# Altium integrated library Analog Devices Operational Amplifiers.IntLib: 2102 symbols (part 14 of 70)
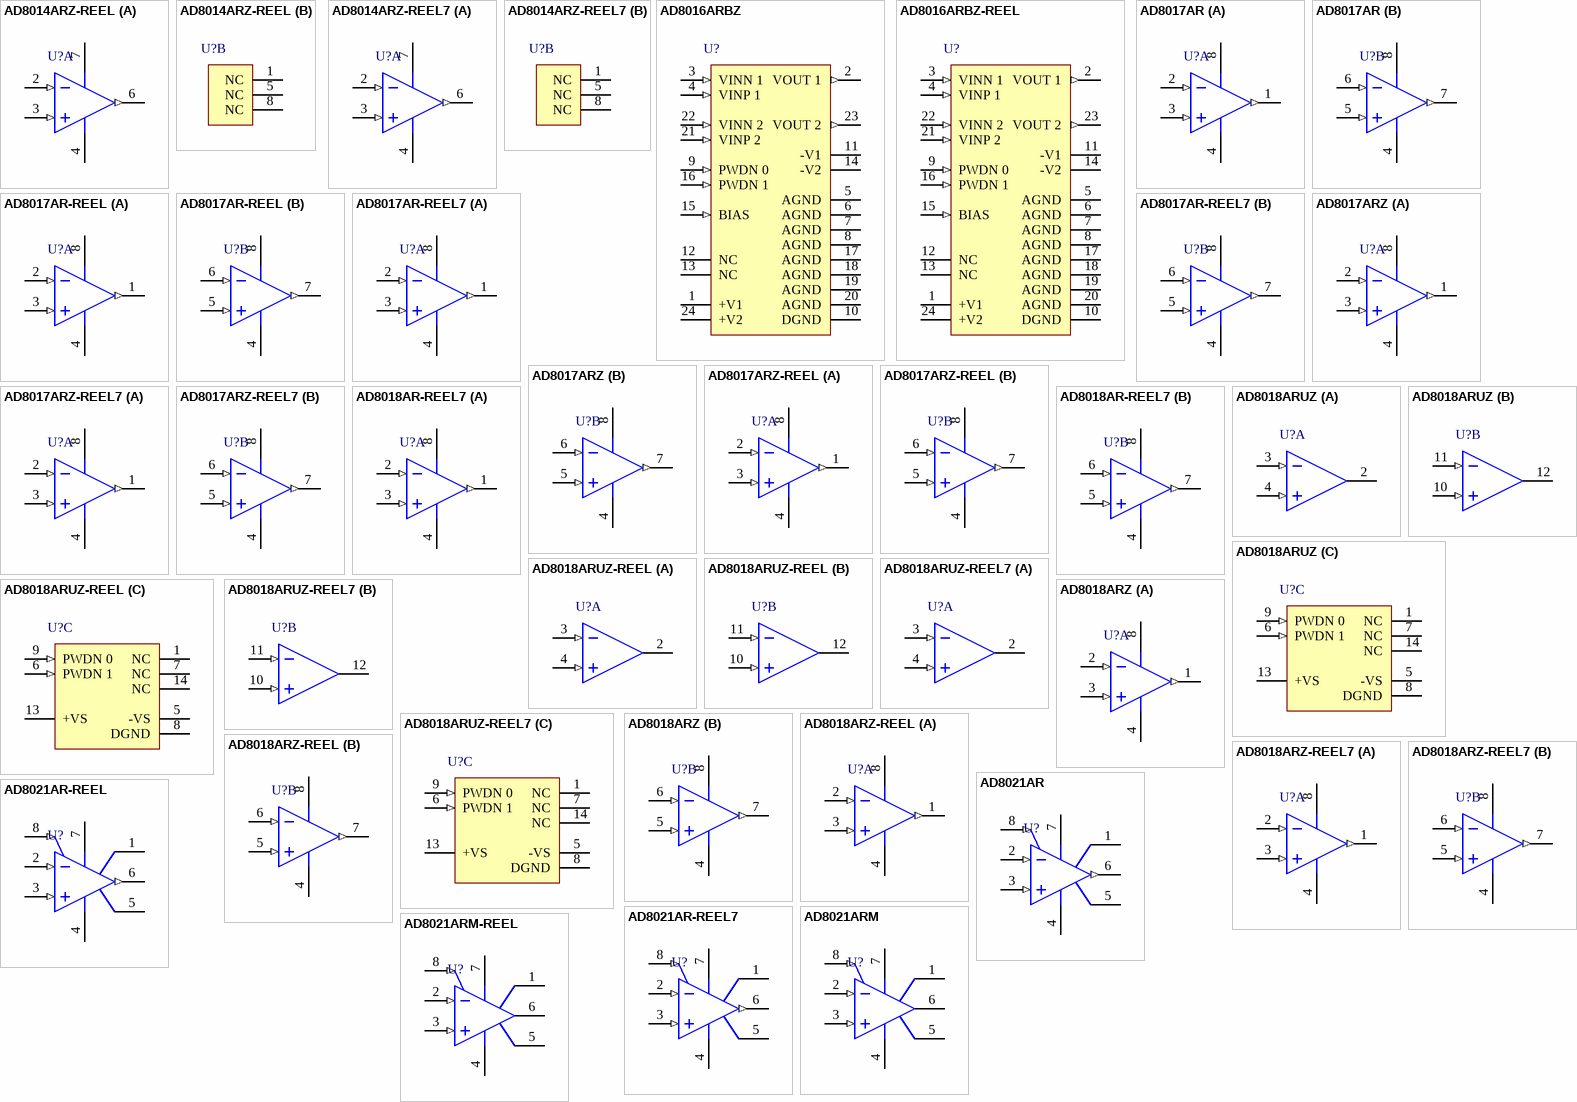
[diagram p127: symbols AD8014ARZ-REEL to AD8021ARM-REEL]

## AD8018ARUZ-REEL7
designator U?
Double Channel Rail-to-Rail Operational Amplifier, 130 MHz BW, 300 V/us SR, Industrial, 14-pin SOP (RU-14), Reel; Generic Part Number: AD8018; Manufacturer: Analog Devices; PartNumber: AD8018ARUZ-REEL7; Amplifiers Per Package: 2; Input Bias Current: 1uA; Input Offset Voltage: 1mV; Iq/Amp: 10mA; Small Signal Bandwidth: 130MHz; V Span Max: 8V; V Span Min: 3.3V; DatasheetVersion: Rev. A; PackageReference: RU-14; PackageDescription: 14-Pin Thin Shrink Small Outline Package, Body 5 x 4.4 mm, Pitch 0.65 mm; Supplier 1: Digi-Key; Supplier Part Number 1: AD8018ARUZ-REEL7-ND; Slew Rate: 300V/us; Mounting Technology: Surface Mount; Code_JEDEC: MO-153AB-1; ComponentLink1Description: Manufacturer URL; ComponentLink1URL: http://www.analog.com/en/index.html; ComponentLink2Description: Datasheet; ComponentLink2URL: http://www.analog.com/static/imported-files/data_sheets/AD8018.pdf; ComponentLink3Description: Package Specification; ComponentLink3URL: http://www.analog.com/static/imported-files/packages/36057385283879153717235186773RU14.pdf
footprint ADI-RU-14_N (SOP, 14-Leads, Body 5x4.4mm, Pitch 0.65mm, IPC Medium Density)
footprint ADI-RU-14_L (SOP, 14-Leads, Body 5x4.4mm, Pitch 0.65mm, IPC High Density)
footprint ADI-RU-14_M (SOP, 14-Leads, Body 5x4.4mm, Pitch 0.65mm, IPC Low Density)
part A pins: 2 OUT 1 (hiz), 3 -IN 1 (in), 4 +IN 1 (in)
part B pins: 10 +IN 2 (in), 11 -IN 2 (in), 12 OUT 2 (hiz)
part C pins: 1 NC, 5 -VS (power), 6 PWDN 1 (in), 7 NC, 8 DGND (power), 9 PWDN 0 (in), 13 +VS (power), 14 NC

## AD8018ARZ
designator U?
Double Channel Rail-to-Rail Operational Amplifier, 130 MHz BW, 300 V/us SR, Industrial, 8-pin SOIC (R-8), Tube; Generic Part Number: AD8018; Manufacturer: Analog Devices; PartNumber: AD8018ARZ; Amplifiers Per Package: 2; Input Bias Current: 1uA; Input Offset Voltage: 1mV; Iq/Amp: 10mA; Small Signal Bandwidth: 130MHz; V Span Max: 8V; V Span Min: 3.3V; DatasheetVersion: Rev. A; PackageVersion: 060506-A; PackageReference: R-8; PackageDescription: 8-Pin Standard Small Outline Package, Body 3.9 x 4.9 mm, Pitch 1.27 mm; Supplier 1: Digi-Key; Supplier Part Number 1: AD8018ARZ-ND; Supplier 2: Newark; Supplier Part Number 2: 59K6191; Slew Rate: 300V/us; Mounting Technology: Surface Mount; Code_JEDEC: MS-012-AA; ComponentLink1Description: Manufacturer URL; ComponentLink1URL: http://www.analog.com/en/index.html; ComponentLink2Description: Datasheet; ComponentLink2URL: http://www.analog.com/static/imported-files/data_sheets/AD8018.pdf; ComponentLink3Description: Package Specification; ComponentLink3URL: http://www.analog.com/static/imported-files/packages/PKG_PDF/SOIC_Narrow%20(R)/R_8.pdf
footprint ADI-R-8_N (SOIC, 8-Leads, Body 4.9x3.9mm, Pitch 1.27mm, IPC Medium Density)
footprint ADI-R-8_L (SOIC, 8-Leads, Body 4.9x3.9mm, Pitch 1.27mm, IPC High Density)
footprint ADI-R-8_M (SOIC, 8-Leads, Body 4.9x3.9mm, Pitch 1.27mm, IPC Low Density)
pins on every part: 4 -VS (power), 8 +VS (power)
part A pins: 1 OUT 1 (out), 2 -IN 1 (in), 3 +IN 1 (in)
part B pins: 5 +IN 2 (in), 6 -IN 2 (in), 7 OUT 2 (out)

## AD8018ARZ-REEL
designator U?
Double Channel Rail-to-Rail Operational Amplifier, 130 MHz BW, 300 V/us SR, Industrial, 8-pin SOIC (R-8), Reel; Generic Part Number: AD8018; Manufacturer: Analog Devices; PartNumber: AD8018ARZ-REEL; Amplifiers Per Package: 2; Input Bias Current: 1uA; Input Offset Voltage: 1mV; Iq/Amp: 10mA; Small Signal Bandwidth: 130MHz; V Span Max: 8V; V Span Min: 3.3V; DatasheetVersion: Rev. A; PackageVersion: 060506-A; PackageReference: R-8; PackageDescription: 8-Pin Standard Small Outline Package, Body 3.9 x 4.9 mm, Pitch 1.27 mm; Supplier 1: Digi-Key; Supplier Part Number 1: AD8018ARZ-REEL-ND; Slew Rate: 300V/us; Mounting Technology: Surface Mount; Code_JEDEC: MS-012-AA; ComponentLink1Description: Manufacturer URL; ComponentLink1URL: http://www.analog.com/en/index.html; ComponentLink2Description: Datasheet; ComponentLink2URL: http://www.analog.com/static/imported-files/data_sheets/AD8018.pdf; ComponentLink3Description: Package Specification; ComponentLink3URL: http://www.analog.com/static/imported-files/packages/PKG_PDF/SOIC_Narrow%20(R)/R_8.pdf
footprint ADI-R-8_N (SOIC, 8-Leads, Body 4.9x3.9mm, Pitch 1.27mm, IPC Medium Density)
footprint ADI-R-8_L (SOIC, 8-Leads, Body 4.9x3.9mm, Pitch 1.27mm, IPC High Density)
footprint ADI-R-8_M (SOIC, 8-Leads, Body 4.9x3.9mm, Pitch 1.27mm, IPC Low Density)
pins on every part: 4 -VS (power), 8 +VS (power)
part A pins: 1 OUT 1 (out), 2 -IN 1 (in), 3 +IN 1 (in)
part B pins: 5 +IN 2 (in), 6 -IN 2 (in), 7 OUT 2 (out)

## AD8018ARZ-REEL7
designator U?
Double Channel Rail-to-Rail Operational Amplifier, 130 MHz BW, 300 V/us SR, Industrial, 8-pin SOIC (R-8), Reel; Generic Part Number: AD8018; Manufacturer: Analog Devices; PartNumber: AD8018ARZ-REEL7; Amplifiers Per Package: 2; Input Bias Current: 1uA; Input Offset Voltage: 1mV; Iq/Amp: 10mA; Small Signal Bandwidth: 130MHz; V Span Max: 8V; V Span Min: 3.3V; DatasheetVersion: Rev. A; PackageVersion: 060506-A; PackageReference: R-8; PackageDescription: 8-Pin Standard Small Outline Package, Body 3.9 x 4.9 mm, Pitch 1.27 mm; Supplier 1: Digi-Key; Supplier Part Number 1: AD8018ARZ-REEL7-ND; Slew Rate: 300V/us; Mounting Technology: Surface Mount; Code_JEDEC: MS-012-AA; ComponentLink1Description: Manufacturer URL; ComponentLink1URL: http://www.analog.com/en/index.html; ComponentLink2Description: Datasheet; ComponentLink2URL: http://www.analog.com/static/imported-files/data_sheets/AD8018.pdf; ComponentLink3Description: Package Specification; ComponentLink3URL: http://www.analog.com/static/imported-files/packages/PKG_PDF/SOIC_Narrow%20(R)/R_8.pdf
footprint ADI-R-8_N (SOIC, 8-Leads, Body 4.9x3.9mm, Pitch 1.27mm, IPC Medium Density)
footprint ADI-R-8_L (SOIC, 8-Leads, Body 4.9x3.9mm, Pitch 1.27mm, IPC High Density)
footprint ADI-R-8_M (SOIC, 8-Leads, Body 4.9x3.9mm, Pitch 1.27mm, IPC Low Density)
pins on every part: 4 -VS (power), 8 +VS (power)
part A pins: 1 OUT 1 (out), 2 -IN 1 (in), 3 +IN 1 (in)
part B pins: 5 +IN 2 (in), 6 -IN 2 (in), 7 OUT 2 (out)

## AD8021AR
designator U?
Single Channel Low Power Operational Amplifier, 490 MHz BW, 120 V/us SR, Industrial, 8-pin SOIC (R-8), Tube; Generic Part Number: AD8021; Manufacturer: Analog Devices; PartNumber: AD8021AR; Amplifiers Per Package: 1; Input Bias Current: 7.5uA; Input Offset Voltage: 400uV; Iq/Amp: 7.7mA; Small Signal Bandwidth: 490MHz; V Span Max: 24V; V Span Min: 4.5V; DatasheetVersion: Rev. F; PackageVersion: 060506-A; PackageReference: R-8; PackageDescription: 8-Pin Standard Small Outline Package, Body 3.9 x 4.9 mm, Pitch 1.27 mm; Supplier 1: Digi-Key; Supplier Part Number 1: AD8021AR-ND; Slew Rate: 120V/us; Mounting Technology: Surface Mount; Code_JEDEC: MS-012-AA; ComponentLink1Description: Manufacturer URL; ComponentLink1URL: http://www.analog.com/en/index.html; ComponentLink2Description: Datasheet; ComponentLink2URL: http://www.analog.com/static/imported-files/data_sheets/AD8021.pdf; ComponentLink3Description: Package Specification; ComponentLink3URL: http://www.analog.com/static/imported-files/packages/PKG_PDF/SOIC_Narrow%20(R)/R_8.pdf; ComponentLink4Description: Reference Circuit; ComponentLink4URL: http://www.analog.com/en/all-operational-amplifiers-op-amps/operational-amplifiers-op-amps/ad8021/products/product.html#product-recommendations
footprint ADI-R-8_N (SOIC, 8-Leads, Body 4.9x3.9mm, Pitch 1.27mm, IPC Medium Density)
footprint ADI-R-8_L (SOIC, 8-Leads, Body 4.9x3.9mm, Pitch 1.27mm, IPC High Density)
footprint ADI-R-8_M (SOIC, 8-Leads, Body 4.9x3.9mm, Pitch 1.27mm, IPC Low Density)
pins: 1 LOGIC REFERENCE "Reference for Pin 81 Voltage Level. Connect to logic low supply.", 2 -IN (in) "Inverting Input.", 3 +IN (in) "Noninverting Input.", 4 -VS (power) "Negative Supply Voltage.", 5 CCOMP "Compensation Capacitor. Tie to -VS. (See the Applications section for value.)", 6 VOUT (out) "Output.", 7 +VS (power) "Positive Supply Voltage.", 8 ~{DISABLE} (in) "Disable, Active Low."

## AD8021AR-REEL
designator U?
Single Channel Low Power Operational Amplifier, 490 MHz BW, 120 V/us SR, Industrial, 8-pin SOIC (R-8), Reel; Generic Part Number: AD8021; Manufacturer: Analog Devices; PartNumber: AD8021AR-REEL; Amplifiers Per Package: 1; Input Bias Current: 7.5uA; Input Offset Voltage: 400uV; Iq/Amp: 7.7mA; Small Signal Bandwidth: 490MHz; V Span Max: 24V; V Span Min: 4.5V; DatasheetVersion: Rev. F; PackageVersion: 060506-A; PackageReference: R-8; PackageDescription: 8-Pin Standard Small Outline Package, Body 3.9 x 4.9 mm, Pitch 1.27 mm; Supplier 1: Digi-Key; Supplier Part Number 1: AD8021AR-REEL-ND; Supplier 2: Newark; Supplier Part Number 2: 02H1803; Slew Rate: 120V/us; Mounting Technology: Surface Mount; Code_JEDEC: MS-012-AA; ComponentLink1Description: Manufacturer URL; ComponentLink1URL: http://www.analog.com/en/index.html; ComponentLink2Description: Datasheet; ComponentLink2URL: http://www.analog.com/static/imported-files/data_sheets/AD8021.pdf; ComponentLink3Description: Package Specification; ComponentLink3URL: http://www.analog.com/static/imported-files/packages/PKG_PDF/SOIC_Narrow%20(R)/R_8.pdf; ComponentLink4Description: Reference Circuit; ComponentLink4URL: http://www.analog.com/en/all-operational-amplifiers-op-amps/operational-amplifiers-op-amps/ad8021/products/product.html#product-recommendations
footprint ADI-R-8_N (SOIC, 8-Leads, Body 4.9x3.9mm, Pitch 1.27mm, IPC Medium Density)
footprint ADI-R-8_L (SOIC, 8-Leads, Body 4.9x3.9mm, Pitch 1.27mm, IPC High Density)
footprint ADI-R-8_M (SOIC, 8-Leads, Body 4.9x3.9mm, Pitch 1.27mm, IPC Low Density)
pins: 1 LOGIC REFERENCE "Reference for Pin 81 Voltage Level. Connect to logic low supply.", 2 -IN (in) "Inverting Input.", 3 +IN (in) "Noninverting Input.", 4 -VS (power) "Negative Supply Voltage.", 5 CCOMP "Compensation Capacitor. Tie to -VS. (See the Applications section for value.)", 6 VOUT (out) "Output.", 7 +VS (power) "Positive Supply Voltage.", 8 ~{DISABLE} (in) "Disable, Active Low."

## AD8021AR-REEL7
designator U?
Single Channel Low Power Operational Amplifier, 490 MHz BW, 120 V/us SR, Industrial, 8-pin SOIC (R-8), Reel; Generic Part Number: AD8021; Manufacturer: Analog Devices; PartNumber: AD8021AR-REEL7; Amplifiers Per Package: 1; Input Bias Current: 7.5uA; Input Offset Voltage: 400uV; Iq/Amp: 7.7mA; Small Signal Bandwidth: 490MHz; V Span Max: 24V; V Span Min: 4.5V; DatasheetVersion: Rev. F; PackageVersion: 060506-A; PackageReference: R-8; PackageDescription: 8-Pin Standard Small Outline Package, Body 3.9 x 4.9 mm, Pitch 1.27 mm; Supplier 1: Digi-Key; Supplier Part Number 1: AD8021AR-REEL7-ND; Supplier 2: Newark; Supplier Part Number 2: 02H1804; Slew Rate: 120V/us; Mounting Technology: Surface Mount; Code_JEDEC: MS-012-AA; ComponentLink1Description: Manufacturer URL; ComponentLink1URL: http://www.analog.com/en/index.html; ComponentLink2Description: Datasheet; ComponentLink2URL: http://www.analog.com/static/imported-files/data_sheets/AD8021.pdf; ComponentLink3Description: Package Specification; ComponentLink3URL: http://www.analog.com/static/imported-files/packages/PKG_PDF/SOIC_Narrow%20(R)/R_8.pdf; ComponentLink4Description: Reference Circuit; ComponentLink4URL: http://www.analog.com/en/all-operational-amplifiers-op-amps/operational-amplifiers-op-amps/ad8021/products/product.html#product-recommendations
footprint ADI-R-8_N (SOIC, 8-Leads, Body 4.9x3.9mm, Pitch 1.27mm, IPC Medium Density)
footprint ADI-R-8_L (SOIC, 8-Leads, Body 4.9x3.9mm, Pitch 1.27mm, IPC High Density)
footprint ADI-R-8_M (SOIC, 8-Leads, Body 4.9x3.9mm, Pitch 1.27mm, IPC Low Density)
pins: 1 LOGIC REFERENCE "Reference for Pin 81 Voltage Level. Connect to logic low supply.", 2 -IN (in) "Inverting Input.", 3 +IN (in) "Noninverting Input.", 4 -VS (power) "Negative Supply Voltage.", 5 CCOMP "Compensation Capacitor. Tie to -VS. (See the Applications section for value.)", 6 VOUT (out) "Output.", 7 +VS (power) "Positive Supply Voltage.", 8 ~{DISABLE} (in) "Disable, Active Low."

## AD8021ARM
designator U?
Single Channel Low Power Operational Amplifier, 490 MHz BW, 120 V/us SR, Industrial, 8-pin SOP (RM-8), Tube; Generic Part Number: AD8021; Manufacturer: Analog Devices; PartNumber: AD8021ARM; Amplifiers Per Package: 1; Input Bias Current: 7.5uA; Input Offset Voltage: 400uV; Iq/Amp: 7.7mA; Small Signal Bandwidth: 490MHz; V Span Max: 24V; V Span Min: 4.5V; DatasheetVersion: Rev. F; PackageReference: RM-8; PackageDescription: 8-Pin Mini Small Outline Package, Body 3 x 3 mm, Pitch 0.65 mm; Supplier 1: Digi-Key; Supplier Part Number 1: AD8021ARM-ND; Slew Rate: 120V/us; Mounting Technology: Surface Mount; Code_JEDEC: MO-187-AA; ComponentLink1Description: Manufacturer URL; ComponentLink1URL: http://www.analog.com/en/index.html; ComponentLink2Description: Datasheet; ComponentLink2URL: http://www.analog.com/static/imported-files/data_sheets/AD8021.pdf; ComponentLink3Description: Package Specification; ComponentLink3URL: http://www.analog.com/static/imported-files/packages/PKG_PDF/MSOP%28RM%29/RM_8.pdf; ComponentLink4Description: Reference Circuit; ComponentLink4URL: http://www.analog.com/en/all-operational-amplifiers-op-amps/operational-amplifiers-op-amps/ad8021/products/product.html#product-recommendations
footprint ADI-RM-8_N (SOP, 8-Leads, Body 3x3mm, Pitch 0.65mm, IPC Medium Density)
footprint ADI-RM-8_L (SOP, 8-Leads, Body 3x3mm, Pitch 0.65mm, IPC High Density)
footprint ADI-RM-8_M (SOP, 8-Leads, Body 3x3mm, Pitch 0.65mm, IPC Low Density)
pins: 1 LOGIC REFERENCE "Reference for Pin 8 Voltage Level. Connect to logic low supply.", 2 -IN (in) "Inverting Input.", 3 +IN (in) "Noninverting Input.", 4 -VS (power) "Negative Supply Voltage.", 5 CCOMP "Compensation Capacitor. Tie to -VS. (See the Applications section for value.)", 6 VOUT (hiz) "Output.", 7 +VS (power) "Positive Supply Voltage.", 8 ~{DISABLE} (in) "Disable, Active Low."

## AD8021ARM-REEL
designator U?
Single Channel Low Power Operational Amplifier, 490 MHz BW, 120 V/us SR, Industrial, 8-pin SOP (RM-8), Reel; Generic Part Number: AD8021; Manufacturer: Analog Devices; PartNumber: AD8021ARM-REEL; Amplifiers Per Package: 1; Input Bias Current: 7.5uA; Input Offset Voltage: 400uV; Iq/Amp: 7.7mA; Small Signal Bandwidth: 490MHz; V Span Max: 24V; V Span Min: 4.5V; DatasheetVersion: Rev. F; PackageReference: RM-8; PackageDescription: 8-Pin Mini Small Outline Package, Body 3 x 3 mm, Pitch 0.65 mm; Supplier 1: Digi-Key; Supplier Part Number 1: AD8021ARM-REEL-ND; Supplier 2: Newark; Supplier Part Number 2: 02H1806; Slew Rate: 120V/us; Mounting Technology: Surface Mount; Code_JEDEC: MO-187-AA; ComponentLink1Description: Manufacturer URL; ComponentLink1URL: http://www.analog.com/en/index.html; ComponentLink2Description: Datasheet; ComponentLink2URL: http://www.analog.com/static/imported-files/data_sheets/AD8021.pdf; ComponentLink3Description: Package Specification; ComponentLink3URL: http://www.analog.com/static/imported-files/packages/PKG_PDF/MSOP%28RM%29/RM_8.pdf; ComponentLink4Description: Reference Circuit; ComponentLink4URL: http://www.analog.com/en/all-operational-amplifiers-op-amps/operational-amplifiers-op-amps/ad8021/products/product.html#product-recommendations
footprint ADI-RM-8_N (SOP, 8-Leads, Body 3x3mm, Pitch 0.65mm, IPC Medium Density)
footprint ADI-RM-8_L (SOP, 8-Leads, Body 3x3mm, Pitch 0.65mm, IPC High Density)
footprint ADI-RM-8_M (SOP, 8-Leads, Body 3x3mm, Pitch 0.65mm, IPC Low Density)
pins: 1 LOGIC REFERENCE "Reference for Pin 8 Voltage Level. Connect to logic low supply.", 2 -IN (in) "Inverting Input.", 3 +IN (in) "Noninverting Input.", 4 -VS (power) "Negative Supply Voltage.", 5 CCOMP "Compensation Capacitor. Tie to -VS. (See the Applications section for value.)", 6 VOUT (hiz) "Output.", 7 +VS (power) "Positive Supply Voltage.", 8 ~{DISABLE} (in) "Disable, Active Low."

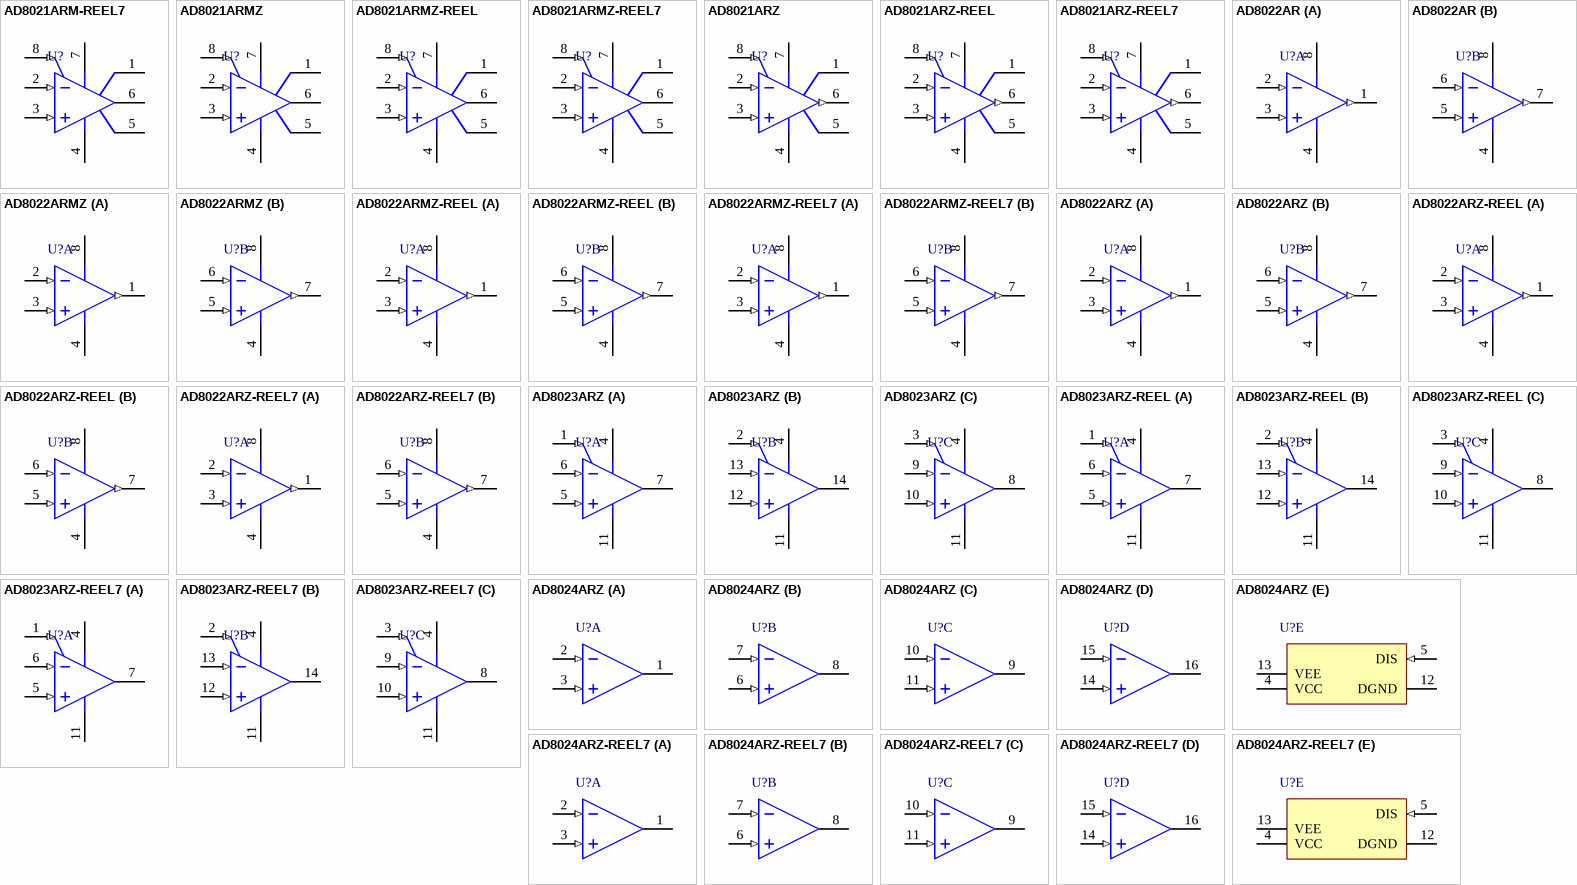
[diagram p21: symbols AD8021ARM-REEL7 to AD8024ARZ-REEL7]

## AD8021ARM-REEL7
designator U?
Single Channel Low Power Operational Amplifier, 490 MHz BW, 120 V/us SR, Industrial, 8-pin SOP (RM-8), Reel; Generic Part Number: AD8021; Manufacturer: Analog Devices; PartNumber: AD8021ARM-REEL7; Amplifiers Per Package: 1; Input Bias Current: 7.5uA; Input Offset Voltage: 400uV; Iq/Amp: 7.7mA; Small Signal Bandwidth: 490MHz; V Span Max: 24V; V Span Min: 4.5V; DatasheetVersion: Rev. F; PackageReference: RM-8; PackageDescription: 8-Pin Mini Small Outline Package, Body 3 x 3 mm, Pitch 0.65 mm; Supplier 1: Digi-Key; Supplier Part Number 1: AD8021ARM-REEL7-ND; Supplier 2: Newark; Supplier Part Number 2: 02H1807; Slew Rate: 120V/us; Mounting Technology: Surface Mount; Code_JEDEC: MO-187-AA; ComponentLink1Description: Manufacturer URL; ComponentLink1URL: http://www.analog.com/en/index.html; ComponentLink2Description: Datasheet; ComponentLink2URL: http://www.analog.com/static/imported-files/data_sheets/AD8021.pdf; ComponentLink3Description: Package Specification; ComponentLink3URL: http://www.analog.com/static/imported-files/packages/PKG_PDF/MSOP%28RM%29/RM_8.pdf; ComponentLink4Description: Reference Circuit; ComponentLink4URL: http://www.analog.com/en/all-operational-amplifiers-op-amps/operational-amplifiers-op-amps/ad8021/products/product.html#product-recommendations
footprint ADI-RM-8_N (SOP, 8-Leads, Body 3x3mm, Pitch 0.65mm, IPC Medium Density)
footprint ADI-RM-8_L (SOP, 8-Leads, Body 3x3mm, Pitch 0.65mm, IPC High Density)
footprint ADI-RM-8_M (SOP, 8-Leads, Body 3x3mm, Pitch 0.65mm, IPC Low Density)
pins: 1 LOGIC REFERENCE "Reference for Pin 8 Voltage Level. Connect to logic low supply.", 2 -IN (in) "Inverting Input.", 3 +IN (in) "Noninverting Input.", 4 -VS (power) "Negative Supply Voltage.", 5 CCOMP "Compensation Capacitor. Tie to -VS. (See the Applications section for value.)", 6 VOUT (hiz) "Output.", 7 +VS (power) "Positive Supply Voltage.", 8 ~{DISABLE} (in) "Disable, Active Low."

## AD8021ARMZ
designator U?
Single Channel Low Power Operational Amplifier, 490 MHz BW, 120 V/us SR, Industrial, 8-pin SOP (RM-8), Tube; Generic Part Number: AD8021; Manufacturer: Analog Devices; PartNumber: AD8021ARMZ; Amplifiers Per Package: 1; Input Bias Current: 7.5uA; Input Offset Voltage: 400uV; Iq/Amp: 7.7mA; Small Signal Bandwidth: 490MHz; V Span Max: 24V; V Span Min: 4.5V; DatasheetVersion: Rev. F; PackageReference: RM-8; PackageDescription: 8-Pin Mini Small Outline Package, Body 3 x 3 mm, Pitch 0.65 mm; Supplier 1: Digi-Key; Supplier Part Number 1: AD8021ARMZ-ND; Supplier 2: Farnell; Supplier Part Number 2: 1651289; Supplier 3: Newark; Supplier Part Number 3: 19M8871; Slew Rate: 120V/us; Mounting Technology: Surface Mount; Code_JEDEC: MO-187-AA; ComponentLink1Description: Manufacturer URL; ComponentLink1URL: http://www.analog.com/en/index.html; ComponentLink2Description: Datasheet; ComponentLink2URL: http://www.analog.com/static/imported-files/data_sheets/AD8021.pdf; ComponentLink3Description: Package Specification; ComponentLink3URL: http://www.analog.com/static/imported-files/packages/PKG_PDF/MSOP%28RM%29/RM_8.pdf; ComponentLink4Description: Reference Circuit; ComponentLink4URL: http://www.analog.com/en/all-operational-amplifiers-op-amps/operational-amplifiers-op-amps/ad8021/products/product.html#product-recommendations
footprint ADI-RM-8_N (SOP, 8-Leads, Body 3x3mm, Pitch 0.65mm, IPC Medium Density)
footprint ADI-RM-8_L (SOP, 8-Leads, Body 3x3mm, Pitch 0.65mm, IPC High Density)
footprint ADI-RM-8_M (SOP, 8-Leads, Body 3x3mm, Pitch 0.65mm, IPC Low Density)
pins: 1 LOGIC REFERENCE "Reference for Pin 8 Voltage Level. Connect to logic low supply.", 2 -IN (in) "Inverting Input.", 3 +IN (in) "Noninverting Input.", 4 -VS (power) "Negative Supply Voltage.", 5 CCOMP "Compensation Capacitor. Tie to -VS. (See the Applications section for value.)", 6 VOUT (hiz) "Output.", 7 +VS (power) "Positive Supply Voltage.", 8 ~{DISABLE} (in) "Disable, Active Low."

## AD8021ARMZ-REEL
designator U?
Single Channel Low Power Operational Amplifier, 490 MHz BW, 120 V/us SR, Industrial, 8-pin SOP (RM-8), Reel; Generic Part Number: AD8021; Manufacturer: Analog Devices; PartNumber: AD8021ARMZ-REEL; Amplifiers Per Package: 1; Input Bias Current: 7.5uA; Input Offset Voltage: 400uV; Iq/Amp: 7.7mA; Small Signal Bandwidth: 490MHz; V Span Max: 24V; V Span Min: 4.5V; DatasheetVersion: Rev. F; PackageReference: RM-8; PackageDescription: 8-Pin Mini Small Outline Package, Body 3 x 3 mm, Pitch 0.65 mm; Supplier 1: Digi-Key; Supplier Part Number 1: AD8021ARMZ-REEL-ND; Supplier 2: Newark; Supplier Part Number 2: 59K6197; Slew Rate: 120V/us; Mounting Technology: Surface Mount; Code_JEDEC: MO-187-AA; ComponentLink1Description: Manufacturer URL; ComponentLink1URL: http://www.analog.com/en/index.html; ComponentLink2Description: Datasheet; ComponentLink2URL: http://www.analog.com/static/imported-files/data_sheets/AD8021.pdf; ComponentLink3Description: Package Specification; ComponentLink3URL: http://www.analog.com/static/imported-files/packages/PKG_PDF/MSOP%28RM%29/RM_8.pdf; ComponentLink4Description: Reference Circuit; ComponentLink4URL: http://www.analog.com/en/all-operational-amplifiers-op-amps/operational-amplifiers-op-amps/ad8021/products/product.html#product-recommendations
footprint ADI-RM-8_N (SOP, 8-Leads, Body 3x3mm, Pitch 0.65mm, IPC Medium Density)
footprint ADI-RM-8_L (SOP, 8-Leads, Body 3x3mm, Pitch 0.65mm, IPC High Density)
footprint ADI-RM-8_M (SOP, 8-Leads, Body 3x3mm, Pitch 0.65mm, IPC Low Density)
pins: 1 LOGIC REFERENCE "Reference for Pin 8 Voltage Level. Connect to logic low supply.", 2 -IN (in) "Inverting Input.", 3 +IN (in) "Noninverting Input.", 4 -VS (power) "Negative Supply Voltage.", 5 CCOMP "Compensation Capacitor. Tie to -VS. (See the Applications section for value.)", 6 VOUT (hiz) "Output.", 7 +VS (power) "Positive Supply Voltage.", 8 ~{DISABLE} (in) "Disable, Active Low."

## AD8021ARMZ-REEL7
designator U?
Single Channel Low Power Operational Amplifier, 490 MHz BW, 120 V/us SR, Industrial, 8-pin SOP (RM-8), Reel; Generic Part Number: AD8021; Manufacturer: Analog Devices; PartNumber: AD8021ARMZ-REEL7; Amplifiers Per Package: 1; Input Bias Current: 7.5uA; Input Offset Voltage: 400uV; Iq/Amp: 7.7mA; Small Signal Bandwidth: 490MHz; V Span Max: 24V; V Span Min: 4.5V; DatasheetVersion: Rev. F; PackageReference: RM-8; PackageDescription: 8-Pin Mini Small Outline Package, Body 3 x 3 mm, Pitch 0.65 mm; Supplier 1: Digi-Key; Supplier Part Number 1: AD8021ARMZ-REEL7-ND; Supplier 2: Newark; Supplier Part Number 2: 59K6198; Slew Rate: 120V/us; Mounting Technology: Surface Mount; Code_JEDEC: MO-187-AA; ComponentLink1Description: Manufacturer URL; ComponentLink1URL: http://www.analog.com/en/index.html; ComponentLink2Description: Datasheet; ComponentLink2URL: http://www.analog.com/static/imported-files/data_sheets/AD8021.pdf; ComponentLink3Description: Package Specification; ComponentLink3URL: http://www.analog.com/static/imported-files/packages/PKG_PDF/MSOP%28RM%29/RM_8.pdf; ComponentLink4Description: Reference Circuit; ComponentLink4URL: http://www.analog.com/en/all-operational-amplifiers-op-amps/operational-amplifiers-op-amps/ad8021/products/product.html#product-recommendations
footprint ADI-RM-8_N (SOP, 8-Leads, Body 3x3mm, Pitch 0.65mm, IPC Medium Density)
footprint ADI-RM-8_L (SOP, 8-Leads, Body 3x3mm, Pitch 0.65mm, IPC High Density)
footprint ADI-RM-8_M (SOP, 8-Leads, Body 3x3mm, Pitch 0.65mm, IPC Low Density)
pins: 1 LOGIC REFERENCE "Reference for Pin 8 Voltage Level. Connect to logic low supply.", 2 -IN (in) "Inverting Input.", 3 +IN (in) "Noninverting Input.", 4 -VS (power) "Negative Supply Voltage.", 5 CCOMP "Compensation Capacitor. Tie to -VS. (See the Applications section for value.)", 6 VOUT (hiz) "Output.", 7 +VS (power) "Positive Supply Voltage.", 8 ~{DISABLE} (in) "Disable, Active Low."

## AD8021ARZ
designator U?
Single Channel Low Power Operational Amplifier, 490 MHz BW, 120 V/us SR, Industrial, 8-pin SOIC (R-8), Tube; Generic Part Number: AD8021; Manufacturer: Analog Devices; PartNumber: AD8021ARZ; Amplifiers Per Package: 1; Input Bias Current: 7.5uA; Input Offset Voltage: 400uV; Iq/Amp: 7.7mA; Small Signal Bandwidth: 490MHz; V Span Max: 24V; V Span Min: 4.5V; DatasheetVersion: Rev. F; PackageVersion: 060506-A; PackageReference: R-8; PackageDescription: 8-Pin Standard Small Outline Package, Body 3.9 x 4.9 mm, Pitch 1.27 mm; Supplier 1: Digi-Key; Supplier Part Number 1: AD8021ARZ-ND; Supplier 2: Farnell; Supplier Part Number 2: 9426000; Supplier 3: Farnell; Supplier Part Number 3: 2133943; Supplier 4: Newark; Supplier Part Number 4: 88H0100; Slew Rate: 120V/us; Mounting Technology: Surface Mount; Code_JEDEC: MS-012-AA; ComponentLink1Description: Manufacturer URL; ComponentLink1URL: http://www.analog.com/en/index.html; ComponentLink2Description: Datasheet; ComponentLink2URL: http://www.analog.com/static/imported-files/data_sheets/AD8021.pdf; ComponentLink3Description: Package Specification; ComponentLink3URL: http://www.analog.com/static/imported-files/packages/PKG_PDF/SOIC_Narrow%20(R)/R_8.pdf; ComponentLink4Description: Reference Circuit; ComponentLink4URL: http://www.analog.com/en/all-operational-amplifiers-op-amps/operational-amplifiers-op-amps/ad8021/products/product.html#product-recommendations
footprint ADI-R-8_N (SOIC, 8-Leads, Body 4.9x3.9mm, Pitch 1.27mm, IPC Medium Density)
footprint ADI-R-8_L (SOIC, 8-Leads, Body 4.9x3.9mm, Pitch 1.27mm, IPC High Density)
footprint ADI-R-8_M (SOIC, 8-Leads, Body 4.9x3.9mm, Pitch 1.27mm, IPC Low Density)
pins: 1 LOGIC REFERENCE "Reference for Pin 81 Voltage Level. Connect to logic low supply.", 2 -IN (in) "Inverting Input.", 3 +IN (in) "Noninverting Input.", 4 -VS (power) "Negative Supply Voltage.", 5 CCOMP "Compensation Capacitor. Tie to -VS. (See the Applications section for value.)", 6 VOUT (out) "Output.", 7 +VS (power) "Positive Supply Voltage.", 8 ~{DISABLE} (in) "Disable, Active Low."

## AD8021ARZ-REEL
designator U?
Single Channel Low Power Operational Amplifier, 490 MHz BW, 120 V/us SR, Industrial, 8-pin SOIC (R-8), Reel; Generic Part Number: AD8021; Manufacturer: Analog Devices; PartNumber: AD8021ARZ-REEL; Amplifiers Per Package: 1; Input Bias Current: 7.5uA; Input Offset Voltage: 400uV; Iq/Amp: 7.7mA; Small Signal Bandwidth: 490MHz; V Span Max: 24V; V Span Min: 4.5V; DatasheetVersion: Rev. F; PackageVersion: 060506-A; PackageReference: R-8; PackageDescription: 8-Pin Standard Small Outline Package, Body 3.9 x 4.9 mm, Pitch 1.27 mm; Supplier 1: Digi-Key; Supplier Part Number 1: AD8021ARZ-REEL-ND; Supplier 2: Newark; Supplier Part Number 2: 88H0101; Slew Rate: 120V/us; Mounting Technology: Surface Mount; Code_JEDEC: MS-012-AA; ComponentLink1Description: Manufacturer URL; ComponentLink1URL: http://www.analog.com/en/index.html; ComponentLink2Description: Datasheet; ComponentLink2URL: http://www.analog.com/static/imported-files/data_sheets/AD8021.pdf; ComponentLink3Description: Package Specification; ComponentLink3URL: http://www.analog.com/static/imported-files/packages/PKG_PDF/SOIC_Narrow%20(R)/R_8.pdf; ComponentLink4Description: Reference Circuit; ComponentLink4URL: http://www.analog.com/en/all-operational-amplifiers-op-amps/operational-amplifiers-op-amps/ad8021/products/product.html#product-recommendations
footprint ADI-R-8_N (SOIC, 8-Leads, Body 4.9x3.9mm, Pitch 1.27mm, IPC Medium Density)
footprint ADI-R-8_L (SOIC, 8-Leads, Body 4.9x3.9mm, Pitch 1.27mm, IPC High Density)
footprint ADI-R-8_M (SOIC, 8-Leads, Body 4.9x3.9mm, Pitch 1.27mm, IPC Low Density)
pins: 1 LOGIC REFERENCE "Reference for Pin 81 Voltage Level. Connect to logic low supply.", 2 -IN (in) "Inverting Input.", 3 +IN (in) "Noninverting Input.", 4 -VS (power) "Negative Supply Voltage.", 5 CCOMP "Compensation Capacitor. Tie to -VS. (See the Applications section for value.)", 6 VOUT (out) "Output.", 7 +VS (power) "Positive Supply Voltage.", 8 ~{DISABLE} (in) "Disable, Active Low."

## AD8021ARZ-REEL7
designator U?
Single Channel Low Power Operational Amplifier, 490 MHz BW, 120 V/us SR, Industrial, 8-pin SOIC (R-8), Reel; Generic Part Number: AD8021; Manufacturer: Analog Devices; PartNumber: AD8021ARZ-REEL7; Amplifiers Per Package: 1; Input Bias Current: 7.5uA; Input Offset Voltage: 400uV; Iq/Amp: 7.7mA; Small Signal Bandwidth: 490MHz; V Span Max: 24V; V Span Min: 4.5V; DatasheetVersion: Rev. F; PackageVersion: 060506-A; PackageReference: R-8; PackageDescription: 8-Pin Standard Small Outline Package, Body 3.9 x 4.9 mm, Pitch 1.27 mm; Supplier 1: Digi-Key; Supplier Part Number 1: AD8021ARZ-REEL7TR-ND; Supplier 2: Digi-Key; Supplier Part Number 2: AD8021ARZ-REEL7CT-ND; Supplier 3: Digi-Key; Supplier Part Number 3: AD8021ARZ-REEL7DKR-ND; Supplier 4: Newark; Supplier Part Number 4: 82H2947; Slew Rate: 120V/us; Mounting Technology: Surface Mount; Code_JEDEC: MS-012-AA; ComponentLink1Description: Manufacturer URL; ComponentLink1URL: http://www.analog.com/en/index.html; ComponentLink2Description: Datasheet; ComponentLink2URL: http://www.analog.com/static/imported-files/data_sheets/AD8021.pdf; ComponentLink3Description: Package Specification; ComponentLink3URL: http://www.analog.com/static/imported-files/packages/PKG_PDF/SOIC_Narrow%20(R)/R_8.pdf; ComponentLink4Description: Reference Circuit; ComponentLink4URL: http://www.analog.com/en/all-operational-amplifiers-op-amps/operational-amplifiers-op-amps/ad8021/products/product.html#product-recommendations
footprint ADI-R-8_N (SOIC, 8-Leads, Body 4.9x3.9mm, Pitch 1.27mm, IPC Medium Density)
footprint ADI-R-8_L (SOIC, 8-Leads, Body 4.9x3.9mm, Pitch 1.27mm, IPC High Density)
footprint ADI-R-8_M (SOIC, 8-Leads, Body 4.9x3.9mm, Pitch 1.27mm, IPC Low Density)
pins: 1 LOGIC REFERENCE "Reference for Pin 81 Voltage Level. Connect to logic low supply.", 2 -IN (in) "Inverting Input.", 3 +IN (in) "Noninverting Input.", 4 -VS (power) "Negative Supply Voltage.", 5 CCOMP "Compensation Capacitor. Tie to -VS. (See the Applications section for value.)", 6 VOUT (out) "Output.", 7 +VS (power) "Positive Supply Voltage.", 8 ~{DISABLE} (in) "Disable, Active Low."

## AD8022AR
designator U?
Double Channel Low Power Operational Amplifier, 130 MHz BW, 50 V/us SR, Industrial, 8-pin SOIC (R-8), Tube; Generic Part Number: AD8022; Manufacturer: Analog Devices; PartNumber: AD8022AR; Amplifiers Per Package: 2; Input Bias Current: 2.5uA; Input Offset Voltage: 1.5mV; Iq/Amp: 5.5mA; Slew Rate: 50V/us; Small Signal Bandwidth: 130MHz; V Span Max: 26V; V Span Min: 4.5V; DatasheetVersion: Rev. C; PackageVersion: 060506-A; PackageReference: R-8; PackageDescription: 8-Pin Standard Small Outline Package, Body 3.9 x 4.9 mm, Pitch 1.27 mm; Supplier 1: Digi-Key; Supplier Part Number 1: AD8022AR-ND; Mounting Technology: Surface Mount; Code_JEDEC: MS-012-AA; ComponentLink1Description: Manufacturer URL; ComponentLink1URL: http://www.analog.com/en/index.html; ComponentLink2Description: Datasheet; ComponentLink2URL: http://www.analog.com/static/imported-files/data_sheets/AD8022.pdf; ComponentLink3Description: Package Specification; ComponentLink3URL: http://www.analog.com/static/imported-files/packages/PKG_PDF/SOIC_Narrow%20(R)/R_8.pdf; ComponentLink4Description: Reference Circuit; ComponentLink4URL: http://www.analog.com/en/all-operational-amplifiers-op-amps/operational-amplifiers-op-amps/ad8022/products/product.html#product-recommendations
footprint ADI-R-8_N (SOIC, 8-Leads, Body 4.9x3.9mm, Pitch 1.27mm, IPC Medium Density)
footprint ADI-R-8_L (SOIC, 8-Leads, Body 4.9x3.9mm, Pitch 1.27mm, IPC High Density)
footprint ADI-R-8_M (SOIC, 8-Leads, Body 4.9x3.9mm, Pitch 1.27mm, IPC Low Density)
pins on every part: 4 -VS (power), 8 +VS (power)
part A pins: 1 OUT 1 (out), 2 -IN 1 (in), 3 +IN 1 (in)
part B pins: 5 +IN 2 (in), 6 -IN 2 (in), 7 OUT 2 (out)

## AD8022ARMZ
designator U?
Double Channel Low Power Operational Amplifier, 130 MHz BW, 50 V/us SR, Industrial, 8-pin SOP (RM-8), Tube; Generic Part Number: AD8022; Manufacturer: Analog Devices; PartNumber: AD8022ARMZ; Amplifiers Per Package: 2; Input Bias Current: 2.5uA; Input Offset Voltage: 1.5mV; Iq/Amp: 5.5mA; Slew Rate: 50V/us; Small Signal Bandwidth: 130MHz; V Span Max: 26V; V Span Min: 4.5V; DatasheetVersion: Rev. C; PackageReference: RM-8; PackageDescription: 8-Pin Mini Small Outline Package, Body 3 x 3 mm, Pitch 0.65 mm; Supplier 1: Digi-Key; Supplier Part Number 1: AD8022ARMZ-ND; Supplier 2: Farnell; Supplier Part Number 2: 1699612; Supplier 3: Newark; Supplier Part Number 3: 59K6199; Mounting Technology: Surface Mount; Code_JEDEC: MO-187-AA; ComponentLink1Description: Manufacturer URL; ComponentLink1URL: http://www.analog.com/en/index.html; ComponentLink2Description: Datasheet; ComponentLink2URL: http://www.analog.com/static/imported-files/data_sheets/AD8022.pdf; ComponentLink3Description: Package Specification; ComponentLink3URL: http://www.analog.com/static/imported-files/packages/PKG_PDF/MSOP%28RM%29/RM_8.pdf; ComponentLink4Description: Reference Circuit; ComponentLink4URL: http://www.analog.com/en/all-operational-amplifiers-op-amps/operational-amplifiers-op-amps/ad8022/products/product.html#product-recommendations
footprint ADI-RM-8_N (SOP, 8-Leads, Body 3x3mm, Pitch 0.65mm, IPC Medium Density)
footprint ADI-RM-8_L (SOP, 8-Leads, Body 3x3mm, Pitch 0.65mm, IPC High Density)
footprint ADI-RM-8_M (SOP, 8-Leads, Body 3x3mm, Pitch 0.65mm, IPC Low Density)
pins on every part: 4 -VS (power), 8 +VS (power)
part A pins: 1 OUT 1 (out), 2 -IN 1 (in), 3 +IN 1 (in)
part B pins: 5 +IN 2 (in), 6 -IN 2 (in), 7 OUT 2 (out)

## AD8022ARMZ-REEL
designator U?
Double Channel Low Power Operational Amplifier, 130 MHz BW, 50 V/us SR, Industrial, 8-pin SOP (RM-8), Reel; Generic Part Number: AD8022; Manufacturer: Analog Devices; PartNumber: AD8022ARMZ-REEL; Amplifiers Per Package: 2; Input Bias Current: 2.5uA; Input Offset Voltage: 1.5mV; Iq/Amp: 5.5mA; Slew Rate: 50V/us; Small Signal Bandwidth: 130MHz; V Span Max: 26V; V Span Min: 4.5V; DatasheetVersion: Rev. C; PackageReference: RM-8; PackageDescription: 8-Pin Mini Small Outline Package, Body 3 x 3 mm, Pitch 0.65 mm; Supplier 1: Digi-Key; Supplier Part Number 1: AD8022ARMZ-REEL-ND; Mounting Technology: Surface Mount; Code_JEDEC: MO-187-AA; ComponentLink1Description: Manufacturer URL; ComponentLink1URL: http://www.analog.com/en/index.html; ComponentLink2Description: Datasheet; ComponentLink2URL: http://www.analog.com/static/imported-files/data_sheets/AD8022.pdf; ComponentLink3Description: Package Specification; ComponentLink3URL: http://www.analog.com/static/imported-files/packages/PKG_PDF/MSOP%28RM%29/RM_8.pdf; ComponentLink4Description: Reference Circuit; ComponentLink4URL: http://www.analog.com/en/all-operational-amplifiers-op-amps/operational-amplifiers-op-amps/ad8022/products/product.html#product-recommendations
footprint ADI-RM-8_N (SOP, 8-Leads, Body 3x3mm, Pitch 0.65mm, IPC Medium Density)
footprint ADI-RM-8_L (SOP, 8-Leads, Body 3x3mm, Pitch 0.65mm, IPC High Density)
footprint ADI-RM-8_M (SOP, 8-Leads, Body 3x3mm, Pitch 0.65mm, IPC Low Density)
pins on every part: 4 -VS (power), 8 +VS (power)
part A pins: 1 OUT 1 (out), 2 -IN 1 (in), 3 +IN 1 (in)
part B pins: 5 +IN 2 (in), 6 -IN 2 (in), 7 OUT 2 (out)

## AD8022ARMZ-REEL7
designator U?
Double Channel Low Power Operational Amplifier, 130 MHz BW, 50 V/us SR, Industrial, 8-pin SOP (RM-8), Reel; Generic Part Number: AD8022; Manufacturer: Analog Devices; PartNumber: AD8022ARMZ-REEL7; Amplifiers Per Package: 2; Input Bias Current: 2.5uA; Input Offset Voltage: 1.5mV; Iq/Amp: 5.5mA; Slew Rate: 50V/us; Small Signal Bandwidth: 130MHz; V Span Max: 26V; V Span Min: 4.5V; DatasheetVersion: Rev. C; PackageReference: RM-8; PackageDescription: 8-Pin Mini Small Outline Package, Body 3 x 3 mm, Pitch 0.65 mm; Supplier 1: Digi-Key; Supplier Part Number 1: AD8022ARMZ-REEL7TR-ND; Supplier 2: Digi-Key; Supplier Part Number 2: AD8022ARMZ-REEL7CT-ND; Supplier 3: Digi-Key; Supplier Part Number 3: AD8022ARMZ-REEL7DKR-ND; Supplier 4: Newark; Supplier Part Number 4: 59K6200; Mounting Technology: Surface Mount; Code_JEDEC: MO-187-AA; ComponentLink1Description: Manufacturer URL; ComponentLink1URL: http://www.analog.com/en/index.html; ComponentLink2Description: Datasheet; ComponentLink2URL: http://www.analog.com/static/imported-files/data_sheets/AD8022.pdf; ComponentLink3Description: Package Specification; ComponentLink3URL: http://www.analog.com/static/imported-files/packages/PKG_PDF/MSOP%28RM%29/RM_8.pdf; ComponentLink4Description: Reference Circuit; ComponentLink4URL: http://www.analog.com/en/all-operational-amplifiers-op-amps/operational-amplifiers-op-amps/ad8022/products/product.html#product-recommendations
footprint ADI-RM-8_N (SOP, 8-Leads, Body 3x3mm, Pitch 0.65mm, IPC Medium Density)
footprint ADI-RM-8_L (SOP, 8-Leads, Body 3x3mm, Pitch 0.65mm, IPC High Density)
footprint ADI-RM-8_M (SOP, 8-Leads, Body 3x3mm, Pitch 0.65mm, IPC Low Density)
pins on every part: 4 -VS (power), 8 +VS (power)
part A pins: 1 OUT 1 (out), 2 -IN 1 (in), 3 +IN 1 (in)
part B pins: 5 +IN 2 (in), 6 -IN 2 (in), 7 OUT 2 (out)

## AD8022ARZ
designator U?
Double Channel Low Power Operational Amplifier, 130 MHz BW, 50 V/us SR, Industrial, 8-pin SOIC (R-8), Tube; Generic Part Number: AD8022; Manufacturer: Analog Devices; PartNumber: AD8022ARZ; Amplifiers Per Package: 2; Input Bias Current: 2.5uA; Input Offset Voltage: 1.5mV; Iq/Amp: 5.5mA; Slew Rate: 50V/us; Small Signal Bandwidth: 130MHz; V Span Max: 26V; V Span Min: 4.5V; DatasheetVersion: Rev. C; PackageVersion: 060506-A; PackageReference: R-8; PackageDescription: 8-Pin Standard Small Outline Package, Body 3.9 x 4.9 mm, Pitch 1.27 mm; Supplier 1: Digi-Key; Supplier Part Number 1: AD8022ARZ-ND; Supplier 2: Farnell; Supplier Part Number 2: 8621497; Supplier 3: Newark; Supplier Part Number 3: 82H2949; Mounting Technology: Surface Mount; Code_JEDEC: MS-012-AA; ComponentLink1Description: Manufacturer URL; ComponentLink1URL: http://www.analog.com/en/index.html; ComponentLink2Description: Datasheet; ComponentLink2URL: http://www.analog.com/static/imported-files/data_sheets/AD8022.pdf; ComponentLink3Description: Package Specification; ComponentLink3URL: http://www.analog.com/static/imported-files/packages/PKG_PDF/SOIC_Narrow%20(R)/R_8.pdf; ComponentLink4Description: Reference Circuit; ComponentLink4URL: http://www.analog.com/en/all-operational-amplifiers-op-amps/operational-amplifiers-op-amps/ad8022/products/product.html#product-recommendations
footprint ADI-R-8_N (SOIC, 8-Leads, Body 4.9x3.9mm, Pitch 1.27mm, IPC Medium Density)
footprint ADI-R-8_L (SOIC, 8-Leads, Body 4.9x3.9mm, Pitch 1.27mm, IPC High Density)
footprint ADI-R-8_M (SOIC, 8-Leads, Body 4.9x3.9mm, Pitch 1.27mm, IPC Low Density)
pins on every part: 4 -VS (power), 8 +VS (power)
part A pins: 1 OUT 1 (out), 2 -IN 1 (in), 3 +IN 1 (in)
part B pins: 5 +IN 2 (in), 6 -IN 2 (in), 7 OUT 2 (out)

## AD8022ARZ-REEL
designator U?
Double Channel Low Power Operational Amplifier, 130 MHz BW, 50 V/us SR, Industrial, 8-pin SOIC (R-8), Reel; Generic Part Number: AD8022; Manufacturer: Analog Devices; PartNumber: AD8022ARZ-REEL; Amplifiers Per Package: 2; Input Bias Current: 2.5uA; Input Offset Voltage: 1.5mV; Iq/Amp: 5.5mA; Slew Rate: 50V/us; Small Signal Bandwidth: 130MHz; V Span Max: 26V; V Span Min: 4.5V; DatasheetVersion: Rev. C; PackageVersion: 060506-A; PackageReference: R-8; PackageDescription: 8-Pin Standard Small Outline Package, Body 3.9 x 4.9 mm, Pitch 1.27 mm; Supplier 1: Digi-Key; Supplier Part Number 1: AD8022ARZ-REEL-ND; Supplier 2: Newark; Supplier Part Number 2: 82H2950; Mounting Technology: Surface Mount; Code_JEDEC: MS-012-AA; ComponentLink1Description: Manufacturer URL; ComponentLink1URL: http://www.analog.com/en/index.html; ComponentLink2Description: Datasheet; ComponentLink2URL: http://www.analog.com/static/imported-files/data_sheets/AD8022.pdf; ComponentLink3Description: Package Specification; ComponentLink3URL: http://www.analog.com/static/imported-files/packages/PKG_PDF/SOIC_Narrow%20(R)/R_8.pdf; ComponentLink4Description: Reference Circuit; ComponentLink4URL: http://www.analog.com/en/all-operational-amplifiers-op-amps/operational-amplifiers-op-amps/ad8022/products/product.html#product-recommendations
footprint ADI-R-8_N (SOIC, 8-Leads, Body 4.9x3.9mm, Pitch 1.27mm, IPC Medium Density)
footprint ADI-R-8_L (SOIC, 8-Leads, Body 4.9x3.9mm, Pitch 1.27mm, IPC High Density)
footprint ADI-R-8_M (SOIC, 8-Leads, Body 4.9x3.9mm, Pitch 1.27mm, IPC Low Density)
pins on every part: 4 -VS (power), 8 +VS (power)
part A pins: 1 OUT 1 (out), 2 -IN 1 (in), 3 +IN 1 (in)
part B pins: 5 +IN 2 (in), 6 -IN 2 (in), 7 OUT 2 (out)

## AD8022ARZ-REEL7
designator U?
Double Channel Low Power Operational Amplifier, 130 MHz BW, 50 V/us SR, Industrial, 8-pin SOIC (R-8), Reel; Generic Part Number: AD8022; Manufacturer: Analog Devices; PartNumber: AD8022ARZ-REEL7; Amplifiers Per Package: 2; Input Bias Current: 2.5uA; Input Offset Voltage: 1.5mV; Iq/Amp: 5.5mA; Slew Rate: 50V/us; Small Signal Bandwidth: 130MHz; V Span Max: 26V; V Span Min: 4.5V; DatasheetVersion: Rev. C; PackageVersion: 060506-A; PackageReference: R-8; PackageDescription: 8-Pin Standard Small Outline Package, Body 3.9 x 4.9 mm, Pitch 1.27 mm; Supplier 1: Digi-Key; Supplier Part Number 1: AD8022ARZ-REEL7TR-ND; Supplier 2: Digi-Key; Supplier Part Number 2: AD8022ARZ-REEL7CT-ND; Supplier 3: Digi-Key; Supplier Part Number 3: AD8022ARZ-REEL7DKR-ND; Supplier 4: Newark; Supplier Part Number 4: 59K6201; Mounting Technology: Surface Mount; Code_JEDEC: MS-012-AA; ComponentLink1Description: Manufacturer URL; ComponentLink1URL: http://www.analog.com/en/index.html; ComponentLink2Description: Datasheet; ComponentLink2URL: http://www.analog.com/static/imported-files/data_sheets/AD8022.pdf; ComponentLink3Description: Package Specification; ComponentLink3URL: http://www.analog.com/static/imported-files/packages/PKG_PDF/SOIC_Narrow%20(R)/R_8.pdf; ComponentLink4Description: Reference Circuit; ComponentLink4URL: http://www.analog.com/en/all-operational-amplifiers-op-amps/operational-amplifiers-op-amps/ad8022/products/product.html#product-recommendations
footprint ADI-R-8_N (SOIC, 8-Leads, Body 4.9x3.9mm, Pitch 1.27mm, IPC Medium Density)
footprint ADI-R-8_L (SOIC, 8-Leads, Body 4.9x3.9mm, Pitch 1.27mm, IPC High Density)
footprint ADI-R-8_M (SOIC, 8-Leads, Body 4.9x3.9mm, Pitch 1.27mm, IPC Low Density)
pins on every part: 4 -VS (power), 8 +VS (power)
part A pins: 1 OUT 1 (out), 2 -IN 1 (in), 3 +IN 1 (in)
part B pins: 5 +IN 2 (in), 6 -IN 2 (in), 7 OUT 2 (out)

## AD8023ARZ
designator U?
3 Channel High Speed Operational Amplifier, 125 MHz BW, 1.2 KV/us SR, Industrial, 14-pin SOIC (R-14), Tube; Generic Part Number: AD8023; Manufacturer: Analog Devices; PartNumber: AD8023ARZ; Amplifiers Per Package: 3; Input Bias Current: 5uA; Input Offset Voltage: 2mV; Iq/Amp: 10mA; Small Signal Bandwidth: 125MHz; V Span Max: 15V; V Span Min: 4.2V; DatasheetVersion: Rev. A; PackageVersion: 060606-A; PackageReference: R-14; PackageDescription: 14-Pin Standard Small Outline Package, Body 8.65 x 3.9 mm, Pitch 1.27 mm; Supplier 1: Digi-Key; Supplier Part Number 1: AD8023ARZ-ND; Packing: Tube; Slew Rate: 1.2KV/us; Mounting Technology: Surface Mount; Code_JEDEC: MS-012-AB; ComponentLink1Description: Manufacturer URL; ComponentLink1URL: http://www.analog.com/en/index.html; ComponentLink2Description: Datasheet; ComponentLink2URL: http://www.analog.com/static/imported-files/data_sheets/AD8023.pdf; ComponentLink3Description: Package Specification; ComponentLink3URL: http://www.analog.com/static/imported-files/packages/PKG_PDF/SOIC_Narrow%20(R)/R_14.pdf
footprint ADI-R-14_N (SOIC, 14-Leads, Body 8.65x3.9mm, Pitch 1.27mm, IPC Medium Density)
footprint ADI-R-14_L (SOIC, 14-Leads, Body 8.65x3.9mm, Pitch 1.27mm, IPC High Density)
footprint ADI-R-14_M (SOIC, 14-Leads, Body 8.65x3.9mm, Pitch 1.27mm, IPC Low Density)
pins on every part: 4 +VS (power), 11 -VS (power)
part A pins: 1 DISABLE 1 (in), 5 +IN 1 (in), 6 -IN 1 (in), 7 OUT 1 (hiz)
part B pins: 2 DISABLE 2 (in), 12 +IN 2 (in), 13 -IN 2 (in), 14 OUT 2 (hiz)
part C pins: 3 DISABLE 3 (in), 8 OUT 3 (hiz), 9 -IN 3 (in), 10 +IN 3 (in)

## AD8023ARZ-REEL
designator U?
3 Channel High Speed Operational Amplifier, 125 MHz BW, 1.2 KV/us SR, Industrial, 14-pin SOIC (R-14), Reel; Generic Part Number: AD8023; Manufacturer: Analog Devices; PartNumber: AD8023ARZ-REEL; Amplifiers Per Package: 3; Input Bias Current: 5uA; Input Offset Voltage: 2mV; Iq/Amp: 10mA; Small Signal Bandwidth: 125MHz; V Span Max: 15V; V Span Min: 4.2V; DatasheetVersion: Rev. A; PackageVersion: 060606-A; PackageReference: R-14; PackageDescription: 14-Pin Standard Small Outline Package, Body 8.65 x 3.9 mm, Pitch 1.27 mm; Supplier 1: Digi-Key; Supplier Part Number 1: AD8023ARZ-REEL-ND; Packing: Reel; Slew Rate: 1.2KV/us; Mounting Technology: Surface Mount; Code_JEDEC: MS-012-AB; ComponentLink1Description: Manufacturer URL; ComponentLink1URL: http://www.analog.com/en/index.html; ComponentLink2Description: Datasheet; ComponentLink2URL: http://www.analog.com/static/imported-files/data_sheets/AD8023.pdf; ComponentLink3Description: Package Specification; ComponentLink3URL: http://www.analog.com/static/imported-files/packages/PKG_PDF/SOIC_Narrow%20(R)/R_14.pdf
footprint ADI-R-14_N (SOIC, 14-Leads, Body 8.65x3.9mm, Pitch 1.27mm, IPC Medium Density)
footprint ADI-R-14_L (SOIC, 14-Leads, Body 8.65x3.9mm, Pitch 1.27mm, IPC High Density)
footprint ADI-R-14_M (SOIC, 14-Leads, Body 8.65x3.9mm, Pitch 1.27mm, IPC Low Density)
pins on every part: 4 +VS (power), 11 -VS (power)
part A pins: 1 DISABLE 1 (in), 5 +IN 1 (in), 6 -IN 1 (in), 7 OUT 1 (hiz)
part B pins: 2 DISABLE 2 (in), 12 +IN 2 (in), 13 -IN 2 (in), 14 OUT 2 (hiz)
part C pins: 3 DISABLE 3 (in), 8 OUT 3 (hiz), 9 -IN 3 (in), 10 +IN 3 (in)

## AD8023ARZ-REEL7
designator U?
3 Channel High Speed Operational Amplifier, 125 MHz BW, 1.2 KV/us SR, Industrial, 14-pin SOIC (R-14), Reel; Generic Part Number: AD8023; Manufacturer: Analog Devices; PartNumber: AD8023ARZ-REEL7; Amplifiers Per Package: 3; Input Bias Current: 5uA; Input Offset Voltage: 2mV; Iq/Amp: 10mA; Small Signal Bandwidth: 125MHz; V Span Max: 15V; V Span Min: 4.2V; DatasheetVersion: Rev. A; PackageVersion: 060606-A; PackageReference: R-14; PackageDescription: 14-Pin Standard Small Outline Package, Body 8.65 x 3.9 mm, Pitch 1.27 mm; Supplier 1: Digi-Key; Supplier Part Number 1: AD8023ARZ-REEL7-ND; Packing: Reel; Slew Rate: 1.2KV/us; Mounting Technology: Surface Mount; Code_JEDEC: MS-012-AB; ComponentLink1Description: Manufacturer URL; ComponentLink1URL: http://www.analog.com/en/index.html; ComponentLink2Description: Datasheet; ComponentLink2URL: http://www.analog.com/static/imported-files/data_sheets/AD8023.pdf; ComponentLink3Description: Package Specification; ComponentLink3URL: http://www.analog.com/static/imported-files/packages/PKG_PDF/SOIC_Narrow%20(R)/R_14.pdf
footprint ADI-R-14_N (SOIC, 14-Leads, Body 8.65x3.9mm, Pitch 1.27mm, IPC Medium Density)
footprint ADI-R-14_L (SOIC, 14-Leads, Body 8.65x3.9mm, Pitch 1.27mm, IPC High Density)
footprint ADI-R-14_M (SOIC, 14-Leads, Body 8.65x3.9mm, Pitch 1.27mm, IPC Low Density)
pins on every part: 4 +VS (power), 11 -VS (power)
part A pins: 1 DISABLE 1 (in), 5 +IN 1 (in), 6 -IN 1 (in), 7 OUT 1 (hiz)
part B pins: 2 DISABLE 2 (in), 12 +IN 2 (in), 13 -IN 2 (in), 14 OUT 2 (hiz)
part C pins: 3 DISABLE 3 (in), 8 OUT 3 (hiz), 9 -IN 3 (in), 10 +IN 3 (in)

## AD8024ARZ
designator U?
Quad Channel Low Power Operational Amplifier, 200 MHz BW, 390 V/us SR, Industrial, 16-pin SOIC (R-16), Tube; Generic Part Number: AD8024; Manufacturer: Analog Devices; PartNumber: AD8024ARZ; Amplifiers Per Package: 4; Input Bias Current: 1uA; Input Offset Voltage: 2mV; Iq/Amp: 17mA; Small Signal Bandwidth: 200MHz; V Span Max: 24V; V Span Min: 5V; DatasheetVersion: Rev. C; PackageVersion: 060606-A; PackageReference: R-16; PackageDescription: 16-Pin Standard Small Outline Package, Body 9.9 x 3.9 mm, Pitch 1.27 mm; Supplier 1: Digi-Key; Supplier Part Number 1: AD8024ARZ-ND; Supplier 2: Farnell; Supplier Part Number 2: 9604260; Supplier 3: Newark; Supplier Part Number 3: 19M8872; Slew Rate: 390V/us; Mounting Technology: Surface Mount; Code_JEDEC: MS-012-AC; ComponentLink1Description: Manufacturer URL; ComponentLink1URL: http://www.analog.com/en/index.html; ComponentLink2Description: Datasheet; ComponentLink2URL: http://www.analog.com/static/imported-files/data_sheets/AD8024.pdf; ComponentLink3Description: Package Specification; ComponentLink3URL: http://www.analog.com/static/imported-files/packages/PKG_PDF/SOIC_Narrow%20(R)/R_16.pdf
footprint ADI-R-16_N (SOIC, 16-Leads, Body 9.9x3.9mm, Pitch 1.27mm, IPC Medium Density)
footprint ADI-R-16_L (SOIC, 16-Leads, Body 9.9x3.9mm, Pitch 1.27mm, IPC High Density)
footprint ADI-R-16_M (SOIC, 16-Leads, Body 9.9x3.9mm, Pitch 1.27mm,IPC Low Density)
part A pins: 1 OUT A (hiz), 2 -IN A (in), 3 +IN A (in)
part B pins: 6 +IN B (in), 7 -IN B (in), 8 OUT B (hiz)
part C pins: 9 OUT C (hiz), 10 -IN C (in), 11 +IN C (in)
part D pins: 14 +IN D (in), 15 -IN D (in), 16 OUT D (hiz)
part E pins: 4 VCC (power), 5 DIS (in), 12 DGND (power), 13 VEE (power)